# EAGLE library part 42T.X (library mb3_transformer)
Xicon Micro-Mini EI-12 Audio Transformers 42TL/42TC/42TM Series Source: http://www.mouser.com//catalog/specsheets/164201.pdf http://www.mouser.com/catalog/specsheets/114225.pdf http://www.mouser.com/catalog/specsheets/164267.pdf
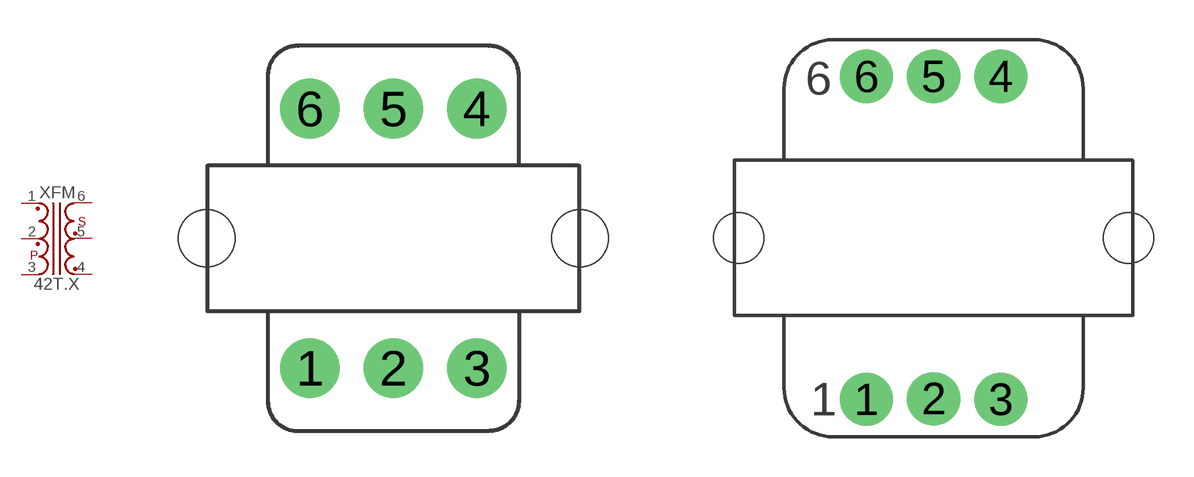
[diagram p0: symbol with the pads of 42TC; footprints 42TC, 42TL]

Designator prefix XFM

## 42T.XC, 42T.X001C, 42T.X013C, 42T.X016C  [42TC]
1  1  pas
2  2  pas
3  3  pas
4  4  pas
5  5  pas
6  6  pas

## 42T.XC0, 42T.X19C0, 42T.X21C0, 42T.X30C0  [42TC]
Pads as for 42TC

## 42T.XL, 42T.X001L, 42T.X002L, 42T.X003L, 42T.X004L, 42T.X006L, 42T.X008L, 42T.X009L, 42T.X011L, 42T.X012L, 42T.X013L, 42T.X016L, 42T.X017L, 42T.X018L, 42T.X019L, 42T.X020L, 42T.X021L, 42T.X022L, 42T.X023L, 42T.X024L, 42T.X025L, 42T.X026L, 42T.X027L, 42T.X030L, 42T.X031L, 42T.X218L  [42TL]
Pads as for 42TC

## 42T.XM, 42T.X001M, 42T.X002M, 42T.X003M, 42T.X004M, 42T.X006M, 42T.X008M, 42T.X009M, 42T.X010M, 42T.X011M, 42T.X012M, 42T.X013M, 42T.X016M, 42T.X017M, 42T.X018M, 42T.X019M, 42T.X020M, 42T.X021M, 42T.X022M, 42T.X023M, 42T.X024M, 42T.X025M, 42T.X026M, 42T.X027M, 42T.X030M, 42T.X031M, 42T.X114M, 42T.X117M, 42T.X118M  [42TM]
Pads as for 42TC

## Footprint 42TC (pad centres in mm)
Xicon Ultra-Mini Audio Transformer 42TC Series Source: http://www.mouser.com/catalog/specsheets/114225.pdf
drill 1 pad 2: 1 -2.794,-4.343; 2 0,-4.343; 3 2.794,-4.343; 4 2.794,4.343; 5 0,4.343; 6 -2.794,4.343
hole 1.9 at -6.248,0
hole 1.9 at 6.248,0

## Footprint 42TL (pad centres in mm)
Xicon Ultra-Mini Audio Transformer 42TL Series Category: Audio & Signal Transformers Source: http://www.mouser.com//catalog/specsheets/164201.pdf
drill 1 pad 2: 1 -2.54,-6.096; 2 0,-6.068; 3 2.54,-6.096; 4 2.54,6.096; 5 0,6.096; 6 -2.54,6.096
hole 1.9 at -7.353,0
hole 1.9 at 7.353,0

## Footprint 42TM (pad centres in mm)
Xicon Ultra-Mini Audio Transformer 42TM Series Source: http://www.mouser.com/catalog/specsheets/164267.pdf
drill 1 pad 2: 1 -3.81,-6.35; 2 0,-6.35; 3 3.81,-6.35; 4 3.81,6.35; 5 0,6.35; 6 -3.81,6.35
drill 2.2 square: P$1 -9.982,0; P$2 9.982,0